# EAGLE library part USB6B1 (library rs232-rs485)
Data line protection Applications Where transient overvoltage protection in sensitive equipment is required, such as: Universal Serial Bus ports RS-423 interfaces RS-485 interfaces ISDN equipment T1/E1 line cards HDSL / ASDL interfaces Features Full diode bridge with integrated clamping protection Breakdown voltage: VBR = 6 V min. Peak pulse power dissipation: PPP = 500 W (8/20 ?s) Very low capacitance, compatible with high debit data or signal rates.
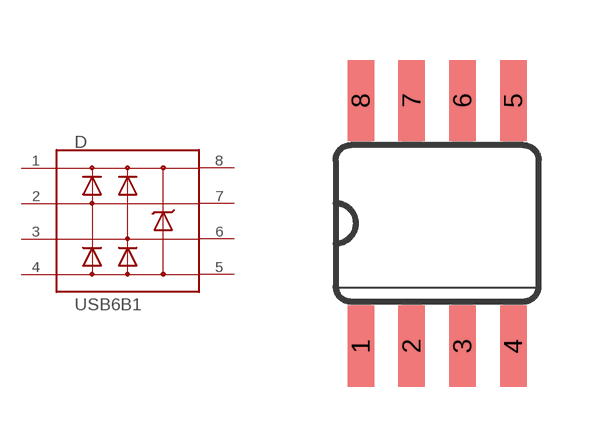
[diagram p4: symbol with the pads of SO08; footprint SO08]

Designator prefix D

## USB6B1  [SO08]
1  1  pas
2  2  pas
3  3  pas
4  4  pas
5  5  pas
6  6  pas
7  7  pas
8  8  pas

## Footprint SO08 (pad centres in mm)
Small Outline Package
smd 0.66 x 2.032: 1 -1.905,-3.073; 2 -0.635,-3.073; 3 0.635,-3.073; 4 1.905,-3.073; 5 1.905,3.073; 6 0.635,3.073; 7 -0.635,3.073; 8 -1.905,3.073